# EAGLE library part TLP621-2 (library hotaru)
dual channel optocoupler TLP621-2 datasheet <http://akizukidenshi.com/download/tlp621-2.pdf>
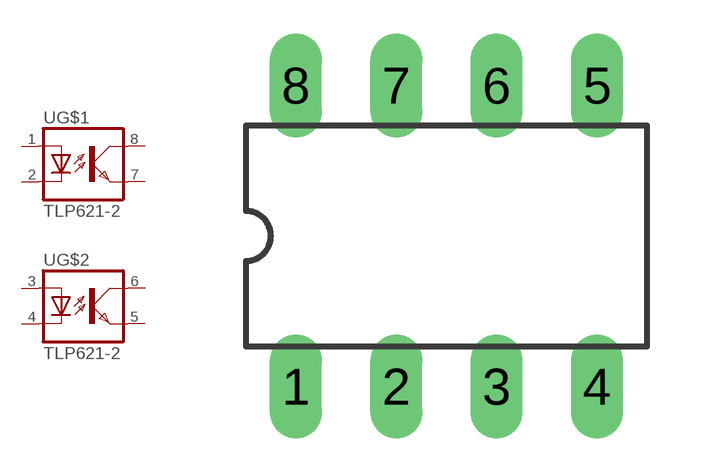
[diagram p2: symbol with the pads of DIL08; footprint DIL08]

Designator prefix -; gates G$1=OPTOCOUPLER G$2=OPTOCOUPLER

## TLP621-2  [DIL08]
1  G$1:A1  pas
2  G$1:C1  pas
3  G$2:A1  pas
4  G$2:C1  pas
5  G$2:EMIT  pas
6  G$2:COL1  pas
7  G$1:EMIT  pas
8  G$1:COL1  pas

## Footprint DIL08 (pad centres in mm)
drill 0.813 long: 1 2.54,0; 2 5.08,0; 3 7.62,0; 4 10.16,0; 5 10.16,7.62; 6 7.62,7.62; 7 5.08,7.62; 8 2.54,7.62